# EAGLE library part GM-862-GPS (library m-pad-2.1)
TELIT GM-862-GPS quad band GSM module with GPS Description:
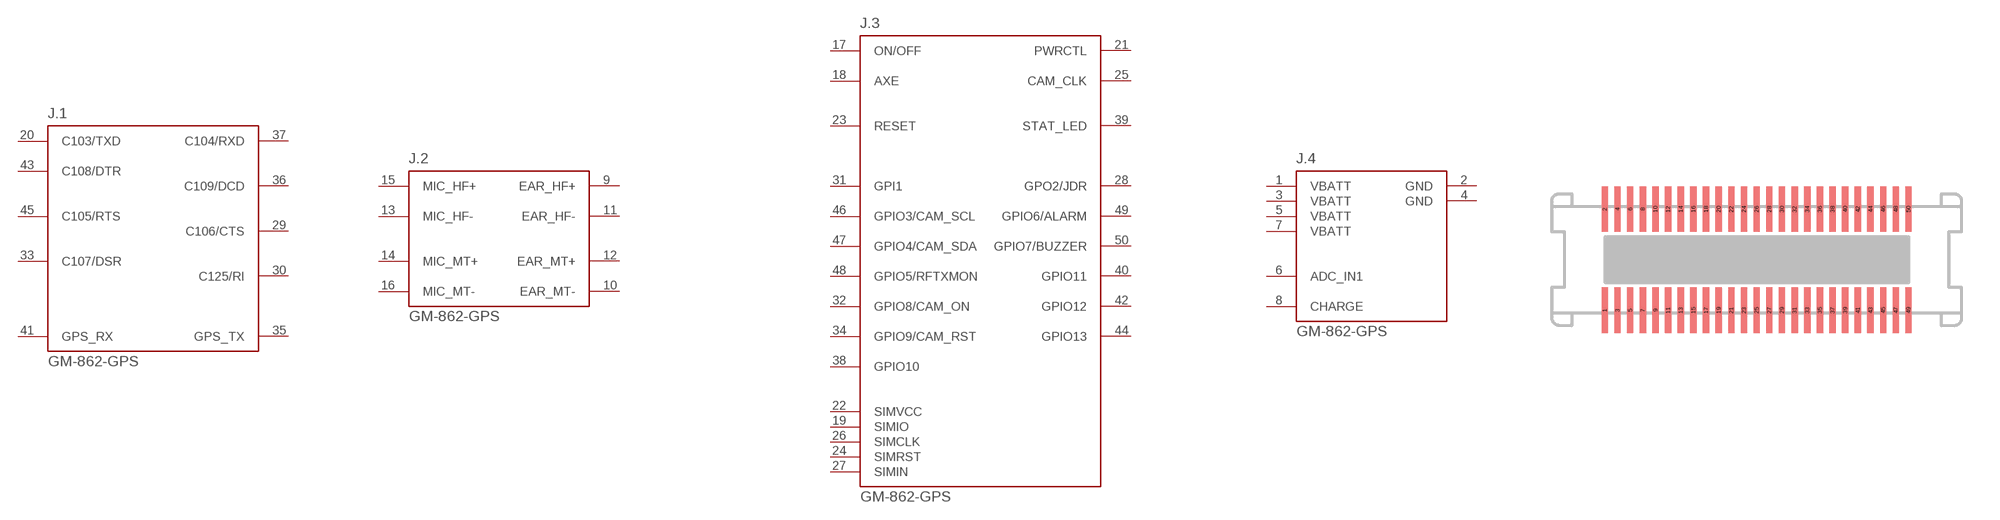
[diagram p175: symbol with the pads of 52991-0508; footprint 52991-0508]

Designator prefix J; gates .1=GM862-GPS-COM .2=GM862-GPS-ANALOG .3=GM862-GPS-CTRL .4=GM862-GPS-PWR

## GM-862-GPS  [52991-0508]
1  .4:VBATT  pwr
2  .4:GND  pwr
3  .4:VBATT  pwr
4  .4:GND  pwr
5  .4:VBATT  pwr
6  .4:ADC_IN1  in
7  .4:VBATT  pwr
8  .4:CHARGE  in
9  .2:EAR_HF+  out
10  .2:EAR_MT-  out
11  .2:EAR_HF-  out
12  .2:EAR_MT+  out
13  .2:MIC_HF-  out
14  .2:MIC_MT+  out
15  .2:MIC_HF+  out
16  .2:MIC_MT-  out
17  .3:ON/OFF  in
18  .3:AXE  in
19  .3:SIMIO
20  .1:C103/TXD  pas
21  .3:PWRCTL  out
22  .3:SIMVCC
23  .3:RESET  in
24  .3:SIMRST
25  .3:CAM_CLK  out
26  .3:SIMCLK
27  .3:SIMIN
28  .3:GPO2/JDR  out
29  .1:C106/CTS  pas
30  .1:C125/RI  pas
31  .3:GPI1  in
32  .3:GPIO8/CAM_ON
33  .1:C107/DSR  pas
34  .3:GPIO9/CAM_RST
35  .1:GPS_TX  out
36  .1:C109/DCD  pas
37  .1:C104/RXD  pas
38  .3:GPIO10
39  .3:STAT_LED  out
40  .3:GPIO11
41  .1:GPS_RX  in
42  .3:GPIO12
43  .1:C108/DTR  pas
44  .3:GPIO13
45  .1:C105/RTS  pas
46  .3:GPIO3/CAM_SCL
47  .3:GPIO4/CAM_SDA
48  .3:GPIO5/RFTXMON
49  .3:GPIO6/ALARM
50  .3:GPIO7/BUZZER

## Footprint 52991-0508 (pad centres in mm)
Molex board to board connector
smd 0.25 x 1.8: 1 -6,-2; 2 -6,2; 3 -5.5,-2; 4 -5.5,2; 5 -5,-2; 6 -5,2; 7 -4.5,-2; 8 -4.5,2; 9 -4,-2; 10 -4,2; 11 -3.5,-2; 12 -3.5,2; 13 -3,-2; 14 -3,2; 15 -2.5,-2; 16 -2.5,2; 17 -2,-2; 18 -2,2; 19 -1.5,-2; 20 -1.5,2; 21 -1,-2; 22 -1,2; 23 -0.5,-2; 24 -0.5,2; 25 0,-2; 26 0,2; 27 0.5,-2; 28 0.5,2; 29 1,-2; 30 1,2; 31 1.5,-2; 32 1.5,2; 33 2,-2; 34 2,2; 35 2.5,-2; 36 2.5,2; 37 3,-2; 38 3,2; 39 3.5,-2; 40 3.5,2; 41 4,-2; 42 4,2; 43 4.5,-2; 44 4.5,2; 45 5,-2; 46 5,2; 47 5.5,-2; 48 5.5,2; 49 6,-2; 50 6,2